# Altium schematic symbol library SCH - ARM CORTEX - STM STM32F100R(4-6)Tx.SchLib: 1 symbol
Pins are listed as number, name and electrical type; pins without a type are passive.

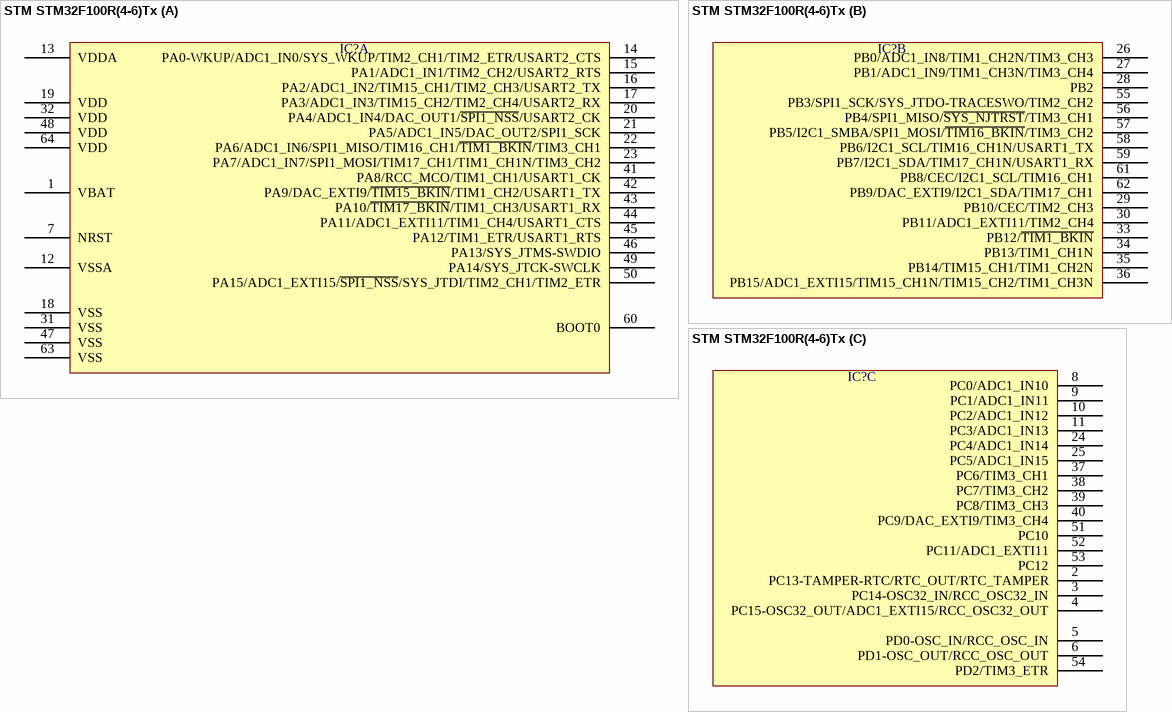
[diagram p0: symbol STM STM32F100R(4-6)Tx]

## STM STM32F100R(4-6)Tx
designator IC?  (value not drawn)
part A pins: 1 VBAT, 7 NRST, 12 VSSA, 13 VDDA, 14 PA0-WKUP/ADC1_IN0/SYS_WKUP/TIM2_CH1/TIM2_ETR/USART2_CTS, 15 PA1/ADC1_IN1/TIM2_CH2/USART2_RTS, 16 PA2/ADC1_IN2/TIM15_CH1/TIM2_CH3/USART2_TX, 17 PA3/ADC1_IN3/TIM15_CH2/TIM2_CH4/USART2_RX, 18 VSS, 19 VDD, 20 PA4/ADC1_IN4/DAC_OUT1/~{SPI1_NSS}/USART2_CK, 21 PA5/ADC1_IN5/DAC_OUT2/SPI1_SCK, 22 PA6/ADC1_IN6/SPI1_MISO/TIM16_CH1/~{TIM1_BKIN}/TIM3_CH1, 23 PA7/ADC1_IN7/SPI1_MOSI/TIM17_CH1/TIM1_CH1N/TIM3_CH2, 31 VSS, 32 VDD, 41 PA8/RCC_MCO/TIM1_CH1/USART1_CK, 42 PA9/DAC_EXTI9/~{TIM15_BKIN}/TIM1_CH2/USART1_TX, 43 PA10/~{TIM17_BKIN}/TIM1_CH3/USART1_RX, 44 PA11/ADC1_EXTI11/TIM1_CH4/USART1_CTS, 45 PA12/TIM1_ETR/USART1_RTS, 46 PA13/SYS_JTMS-SWDIO, 47 VSS, 48 VDD, 49 PA14/SYS_JTCK-SWCLK, 50 PA15/ADC1_EXTI15/~{SPI1_NSS}/SYS_JTDI/TIM2_CH1/TIM2_ETR, 60 BOOT0, 63 VSS, 64 VDD
part B pins: 26 PB0/ADC1_IN8/TIM1_CH2N/TIM3_CH3, 27 PB1/ADC1_IN9/TIM1_CH3N/TIM3_CH4, 28 PB2, 29 PB10/CEC/TIM2_CH3, 30 PB11/ADC1_EXTI11/TIM2_CH4, 33 PB12/~{TIM1_BKIN}, 34 PB13/TIM1_CH1N, 35 PB14/TIM15_CH1/TIM1_CH2N, 36 PB15/ADC1_EXTI15/TIM15_CH1N/TIM15_CH2/TIM1_CH3N, 55 PB3/SPI1_SCK/SYS_JTDO-TRACESWO/TIM2_CH2, 56 PB4/SPI1_MISO/~{SYS_NJTRST}/TIM3_CH1, 57 PB5/I2C1_SMBA/SPI1_MOSI/~{TIM16_BKIN}/TIM3_CH2, 58 PB6/I2C1_SCL/TIM16_CH1N/USART1_TX, 59 PB7/I2C1_SDA/TIM17_CH1N/USART1_RX, 61 PB8/CEC/I2C1_SCL/TIM16_CH1, 62 PB9/DAC_EXTI9/I2C1_SDA/TIM17_CH1
part C pins: 2 PC13-TAMPER-RTC/RTC_OUT/RTC_TAMPER, 3 PC14-OSC32_IN/RCC_OSC32_IN, 4 PC15-OSC32_OUT/ADC1_EXTI15/RCC_OSC32_OUT, 5 PD0-OSC_IN/RCC_OSC_IN, 6 PD1-OSC_OUT/RCC_OSC_OUT, 8 PC0/ADC1_IN10, 9 PC1/ADC1_IN11, 10 PC2/ADC1_IN12, 11 PC3/ADC1_IN13, 24 PC4/ADC1_IN14, 25 PC5/ADC1_IN15, 37 PC6/TIM3_CH1, 38 PC7/TIM3_CH2, 39 PC8/TIM3_CH3, 40 PC9/DAC_EXTI9/TIM3_CH4, 51 PC10, 52 PC11/ADC1_EXTI11, 53 PC12, 54 PD2/TIM3_ETR